# EAGLE library part 74655095R (library SamacSys_Parts)
Wurth Elektronik WP-THRSH 8 Pin PCB Screw Terminal, 85A, Solder, M5 Source: Datasheet <https://katalog.we-online.de/em/datasheet/74655095R.pdf>
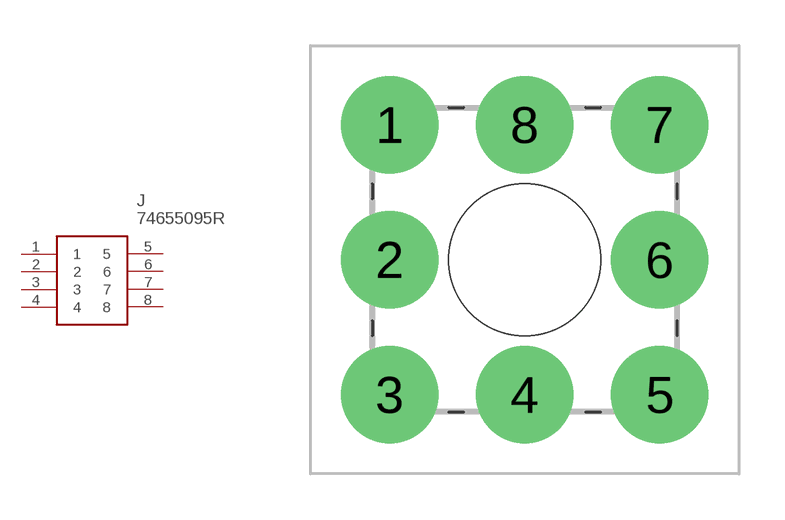
[diagram p2: symbol with the pads of 74655095R; footprint 74655095R]

Designator prefix J

## 74655095R (DESCRIPTION: Wurth Elektronik WP-THRSH 8 Pin PCB Screw Terminal, 85A, Solder, M5; HEIGHT: 4mm; MANUFACTURER_NAME: Wurth Elektronik; MANUFACTURER_PART_NUMBER: 74655095R; MOUSER_PART_NUMBER: 710-74655095R; MOUSER_PRICE-STOCK: https://www.mouser.co.uk/ProductDetail/Wurth-Elektronik/74655095R?qs=lBTPRtX1sU9%252Bxb2%252Be9OSbA%3D%3D)  [74655095R]
1  1
2  2
3  3
4  4
5  5
6  6
7  7
8  8

## Footprint 74655095R (pad centres in mm)
74655095R-1
drill 1.85 pad 3.2: 1 0,0; 2 0,-4.435; 3 0,-8.87; 4 4.435,-8.87; 5 8.87,-8.87; 6 8.87,-4.435; 7 8.87,0; 8 4.435,0
hole 5 at 4.435,-4.435